# EAGLE library part LM75A-SOIC8 (library ECE5780-MotorDriver)
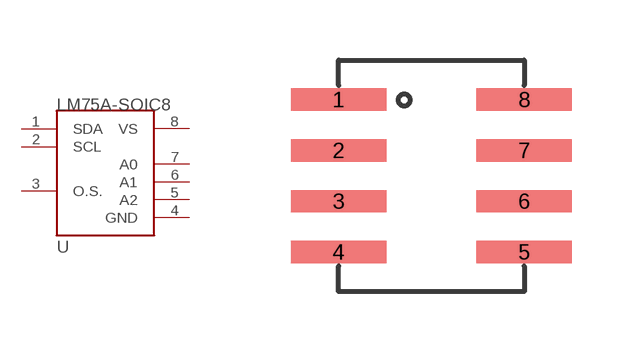
[diagram p1: symbol with the pads of SOIC-8; footprint SOIC-8]

Designator prefix -

## LM75A-SOIC8  [SOIC-8]
1  SDA
2  SCL
3  O.S.
4  GND
5  A2
6  A1
7  A0
8  VS

## Footprint SOIC-8 (pad centres in mm)
smd 2.388 x 0.559: 1 -2.54,1.905; 2 -2.54,0.635; 3 -2.54,-0.635; 4 -2.54,-1.905; 5 2.108,-1.905; 6 2.108,-0.635; 7 2.108,0.635; 8 2.108,1.905